# Altium footprint library RES.PcbLib: 6 footprints
Each footprint in its own frame and in the unit in brackets; x right, y up, seen from the top. Pads: shape width x height; smd on the part's side, far side on the other; paste and mask are expansions set on the pad; w line width, h text height; cw(c..) or ccw(c..) is an arc to the next point about the centre after c.
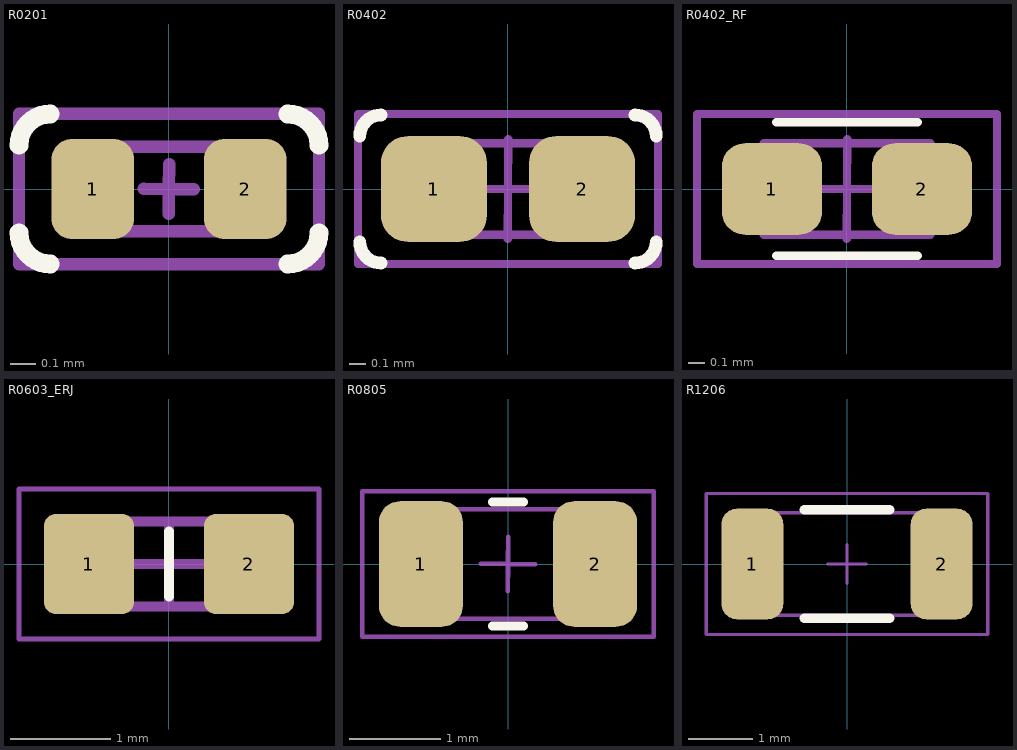
[diagram p0: the footprints below, top view; thin cyan lines are the x and y axes]

## R0201 [mm]
pads (2):
  rrect50% 0.33x0.4 smd: 1(-0.305,0) 2(0.305,0)
Top Overlay:
  lines w0.075: -0.6,-0.175 ccw(c-0.475,-0.175) -0.475,-0.3 ; -0.6,0.175 cw(c-0.475,0.175) -0.475,0.3 ; 0.475,-0.3 ccw(c0.475,-0.175) 0.6,-0.175 ; 0.475,0.3 cw(c0.475,0.175) 0.6,0.175
Top Assembly:
  lines w0.05: -0.32,-0.17 0.32,-0.17 0.32,0.17 -0.32,0.17 -0.32,-0.17
  text ".Designator" at -0.226,-0.023 h0.1
Top Courtyard (Mech15):
  lines w0.05: -0.1,0 0,0 ; 0,-0.1 0,0 ; 0,0.1 0,0 ; 0.1,0 0,0 ; -0.6,-0.3 0.6,-0.3 0.6,0.3 -0.6,0.3 -0.6,-0.3
3D body "step_temp.STEP": height 0.26, standoff 0, extent -0.3,-0.15 0.3,0.15

## R0402 [mil]
pads (2):
  rrect50% 25x25 smd: 1(-17.5,0) 2(17.5,0)
Top Overlay:
  lines w3: -35,-12.5 ccw(c-30,-12.5) -30,-17.5 ; -35,12.5 cw(c-30,12.5) -30,17.5 ; 30,-17.5 ccw(c30,-12.5) 35,-12.5 ; 30,17.5 cw(c30,12.5) 35,12.5
Top Assembly:
  lines w1.97: -19.69,-10.83 19.69,-10.83 19.69,10.83 -19.69,10.83 -19.69,-10.83
  text ".Designator" at -39.36,-2.62 h7.87
Top Courtyard (Mech15):
  lines w1.97: -11.81,0.03 0,0 ; -0.03,-11.81 0,0 ; 0.03,11.81 0,0 ; 11.81,-0.03 0,0 ; -35.43,-17.72 35.43,-17.72 35.43,17.72 -35.43,17.72 -35.43,-17.72
3D body "step_temp.STEP": height 15.75, standoff 0, extent -19.68,-9.84 19.68,9.84

## R0402_RF [mm]
pads (2):
  rrect50% 0.6x0.55 smd paste+0: 1(-0.45,0) 2(0.45,0)
Top Overlay:
  lines w0.05: -0.425,-0.4 0,-0.4 0.425,-0.4 ; -0.425,0.4 0,0.4 0.425,0.4
Top Assembly:
  lines w0.05: -0.5,-0.275 0.5,-0.275 0.5,0.275 -0.5,0.275 -0.5,-0.275
  text ".Designator" at -1,-0.067 h0.2
Top Courtyard (Mech15):
  lines w0.05: -0.3,0.001 0,0 ; -0.001,-0.3 0,0 ; 0.001,0.3 0,0 ; 0.3,-0.001 0,0 ; -0.9,-0.45 0.9,-0.45 0.9,0.45 -0.9,0.45 -0.9,-0.45
3D body "step_temp.STEP": height 0.4, standoff 0, extent -0.5,-0.25 0.5,0.25

## R0603_ERJ [mm]
pads (2):
  rrect25% 0.9x1 smd: 1(-0.8,0) 2(0.8,0)
Top Overlay:
  lines w0.1: 0,-0.325 0,0.325
Top Assembly:
  lines w0.1: -0.8,-0.425 -0.8,0.425 0.8,0.425 0.8,-0.425 -0.8,-0.425
  text ".Designator" at -2.252,-0.226 h1
Top Courtyard (Mech15):
  lines w0.05: -1.5,-0.75 1.5,-0.75 1.5,0.75 -1.5,0.75 -1.5,-0.75
  lines w0.1: -0.4,0 0,0 ; 0,-0.4 0,0 ; 0,0.4 0,0 ; 0.4,0 0,0
3D body "ERJ-3BWFR025V.stp": height 0.55, standoff 0, extent -0.8,-0.4 0.8,0.4

## R0805 [mm]
pads (2):
  rrect50% 0.92x1.38 smd: 1(-0.955,0) 2(0.955,0)
Top Overlay:
  lines w0.1: -0.17,-0.68 0.17,-0.68 ; -0.17,0.68 0.17,0.68
Top Assembly:
  lines w0.05: -1.2,-0.6 1.2,-0.6 1.2,0.6 -1.2,0.6 -1.2,-0.6
  text ".Designator" at -1.999,-0.133 h0.4
Top Courtyard (Mech15):
  lines w0.05: -0.3,0.001 0,0 ; -0.001,-0.3 0,0 ; 0.001,0.3 0,0 ; 0.3,-0.001 0,0 ; -1.6,-0.8 1.6,-0.8 1.6,0.8 -1.6,0.8 -1.6,-0.8
3D body "step_temp.STEP": height 0.6, standoff 0, extent -1,-0.625 1,0.625

## R1206 [mm]
pads (2):
  rrect50% 0.97x1.73 smd: 1(-1.48,0) 2(1.48,0)
Top Overlay:
  lines w0.15: -0.67,-0.85 0.67,-0.85 ; -0.67,0.85 0.67,0.85
Top Assembly:
  lines w0.05: -1.6,-0.8 1.6,-0.8 1.6,0.8 -1.6,0.8 -1.6,-0.8
  text ".Designator" at -1.999,-0.133 h0.4
Top Courtyard (Mech15):
  lines w0.05: -0.3,0.001 0,0 ; -0.001,-0.3 0,0 ; 0.001,0.3 0,0 ; 0.3,-0.001 0,0 ; -2.2,-1.1 2.2,-1.1 2.2,1.1 -2.2,1.1 -2.2,-1.1
3D body "step_temp.STEP": height 0.65, standoff 0, extent -1.55,-0.8 1.55,0.8